# EAGLE library part 690367181872 (library Eagle_BOARD-TO-BOARD_CONNECTORS (rev18b))
WR-MM Female Connector without Latch and without Polarization, 18 Pins=>Code : Con_BTB_MM_Female_THT_St_690367181872 <http://katalog.we-online.de/media/thumbs2/eican/thb_Con_BTB_MM_Female_THT_St_69036718xx72_pf2.jpg> Details see: http://katalog.we-online.de/en/em/6903_6718_xx_72 Created 2014-06-04, Karrer Zheng 2014 (C) Würth Elektronik
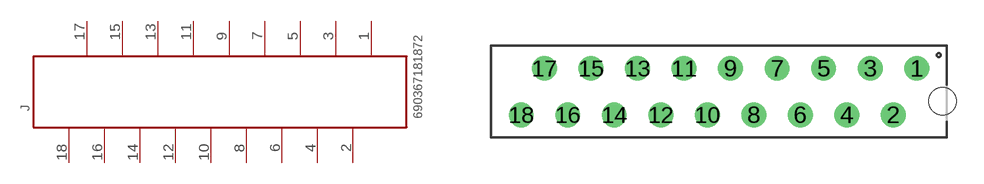
[diagram p333: symbol with the pads of 690367181872; footprint 690367181872]

Designator prefix J

## 690367181872  [690367181872]
1  18  pas
2  17  pas
3  16  pas
4  15  pas
5  14  pas
6  13  pas
7  12  pas
8  11  pas
9  10  pas
10  9  pas
11  8  pas
12  7  pas
13  6  pas
14  5  pas
15  4  pas
16  3  pas
17  2  pas
18  1  pas

## Footprint 690367181872 (pad centres in mm)
WR-MM Female Connector without Latch and without Polarization, 18 Pins
drill 0.85: 1 10.795,1.27; 2 9.525,-1.27; 3 8.255,1.27; 4 6.985,-1.27; 5 5.715,1.27; 6 4.445,-1.27; 7 3.175,1.27; 8 1.905,-1.27; 9 0.635,1.27; 10 -0.635,-1.27; 11 -1.905,1.27; 12 -3.175,-1.27; 13 -4.445,1.27; 14 -5.715,-1.27; 15 -6.985,1.27; 16 -8.255,-1.27; 17 -9.525,1.27; 18 -10.795,-1.27
hole 1.5 at 12.195,-0.53